# Altium footprint library Con_PcbLib.PcbLib: 98 footprints (part 4 of 7)
Each footprint in its own frame and in the unit in brackets; x right, y up, seen from the top. Pads: shape width x height; smd on the part's side, far side on the other; paste and mask are expansions set on the pad; w line width, h text height; cw(c..) or ccw(c..) is an arc to the next point about the centre after c.
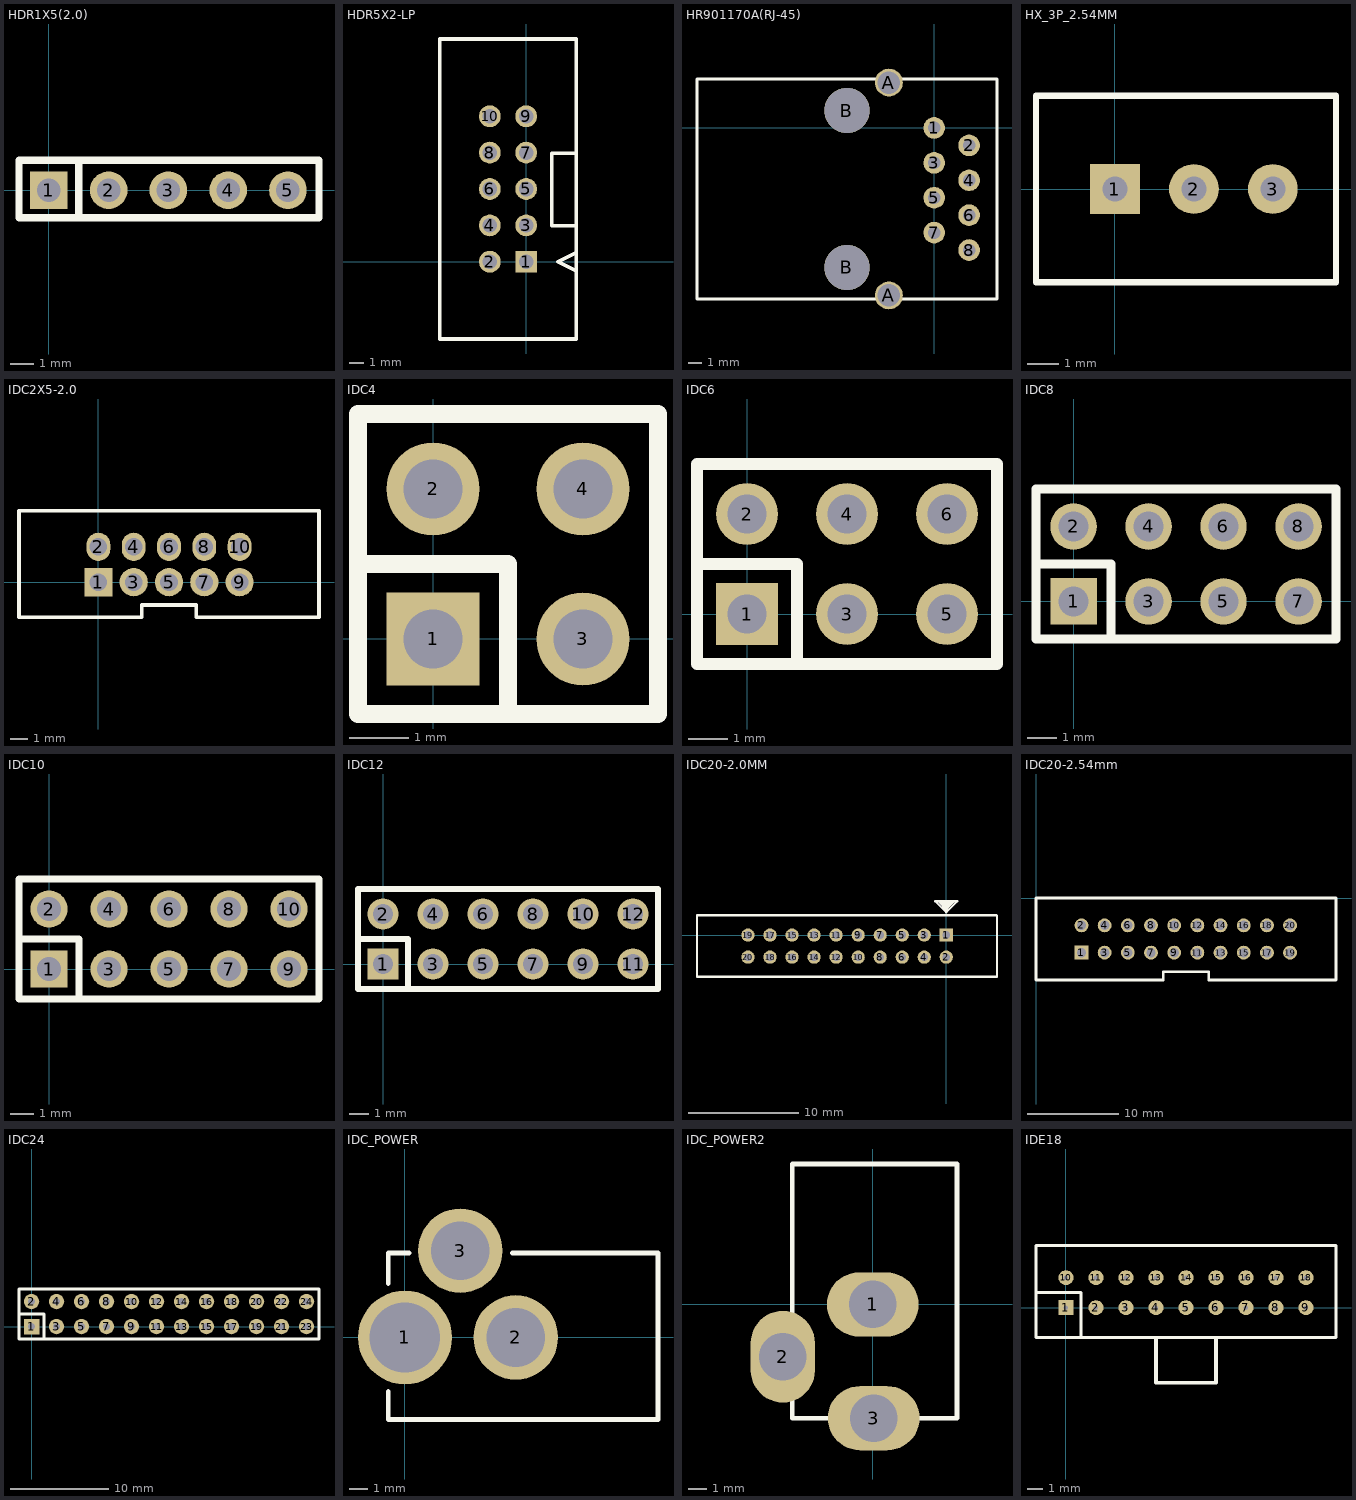
[diagram p3: the footprints below, top view; thin cyan lines are the x and y axes]

## HDR1X5(2.0) [mm]
pads (5):
  rect 1.6x1.6 hole 1: 1(0,0)
  round 1.6 hole 1: 2(2.54,0) 3(5.08,0) 4(7.62,0) 5(10.16,0)
Top Overlay:
  lines w0.305: 1.27,-1.168 1.27,1.27 ; -1.27,-1.168 11.481,-1.168 11.481,1.27 -1.27,1.27 -1.27,-1.168

## HDR5X2-LP [mil]
pads (10):
  rect 60x60 hole 40: 1(0,0)
  round 60 hole 40: 2(-100,0) 3(0,100) 4(-100,100) 5(0,200) 6(-100,200) 7(0,300) 8(-100,300) 9(0,400) 10(-100,400)
Top Overlay:
  lines w10: 137.5,-25 87.5,0 137.5,25 ; 137.5,99.37 70.04,99.37 70.04,298.7 137.5,298.7 ; -237.5,-212.5 -237.5,612.5 137.5,612.5 137.5,-212.5 -237.5,-212.5

## HR901170A(RJ-45) [mil]
pads (12):
  round 62 hole 36: 1(0,0) 2(100,-50) 3(0,-100) 4(100,-150) 5(0,-200) 6(100,-250) 7(0,-300) 8(100,-350)
  round 80 hole 65: A(-130,-480) A(-130,130)
  round 130 hole 130: B(-250,-400) B(-250,50)
Top Overlay:
  lines w8: -680,-490 -680,140 180,140 180,-490 -680,-490

## HX_3P_2.54MM [mm]
pads (3):
  rect 1.6x1.6 hole 0.8: 1(0,0)
  round 1.6 hole 0.8: 2(2.54,0) 3(5.08,0)
Top Overlay:
  lines w0.2: 7.089,-3 -2.54,-3 -2.54,3 7.089,3 ; 7.112,-3 7.112,3

## IDC2X5-2.0 [mm]
pads (10):
  rect 1.6x1.6 hole 1: 1(0,0)
  oval 1.35x1.6 hole 1: 2(0,2) 4(2,2) 6(4,2) 8(6,2) 10(8,2)
  round 1.6 hole 1: 3(2,0) 5(4,0) 7(6,0) 9(8,0)
Top Overlay:
  lines w0.2: -4.5,-1.98 -4.5,4.039 12.5,4.039 12.5,-1.982 ; -4.46,-1.98 2.464,-1.981 2.464,-1.295 5.537,-1.295 5.537,-1.98 12.497,-1.981

## IDC4 [mil]
pads (4):
  rect 62x62 hole 39.37: 1(0,0)
  round 62 hole 39.37: 2(0,100) 3(100,0) 4(100,100)
Top Overlay:
  lines w12: -50,50 50,50 50,-50 ; -50,-50 150,-50 150,150 -50,150 -50,-50

## IDC6 [mil]
pads (6):
  rect 62x62 hole 39.37: 1(0,0)
  round 62 hole 39.37: 2(0,100) 3(100,0) 4(100,100) 5(200,0) 6(200,100)
Top Overlay:
  lines w12: -50,50 50,50 50,-50 ; -50,-50 250,-50 250,150 -50,150 -50,-50

## IDC8 [mil]
pads (8):
  rect 62x62 hole 39.37: 1(0,0)
  round 62 hole 39.37: 2(0,100) 3(100,0) 4(100,100) 5(200,0) 6(200,100) 7(300,0) 8(300,100)
Top Overlay:
  lines w12: -50,50 50,50 50,-50 ; -50,-50 -50,150 350,150 350,-50 -50,-50

## IDC10 [mil]
pads (10):
  rect 62x62 hole 39.37: 1(0,0)
  round 62 hole 39.37: 2(0,100) 3(100,0) 4(100,100) 5(200,0) 6(200,100) 7(300,0) 8(300,100) 9(400,0) 10(400,100)
Top Overlay:
  lines w12: -50,50 50,50 50,-50 ; -50,-50 -50,150 450,150 450,-50 -50,-50

## IDC12 [mil]
pads (12):
  rect 62x62 hole 39.37: 1(0,0)
  round 62 hole 39.37: 2(0,100) 3(100,0) 4(100,100) 5(200,0) 6(200,100) 7(300,0) 8(300,100) 9(400,0) 10(400,100) 11(500,0) 12(500,100)
Top Overlay:
  lines w12: -50,50 50,50 50,-50 ; -50,-50 -50,150 550,150 550,-50 -50,-50

## IDC20-2.0MM [mm]
pads (20):
  rect 1.2x1.2 hole 0.7: 1(0,0)
  round 1.2 hole 0.7: 2(0,-2) 3(-2,0) 4(-2,-2) 5(-4,0) 6(-4,-2) 7(-6,0) 8(-6,-2) 9(-8,0) 10(-8,-2) 11(-10,0) 12(-10,-2) 13(-12,0) 14(-12,-2) 15(-14,0) 16(-14,-2) 17(-16,0) 18(-16,-2) 19(-18,0) 20(-18,-2)
Top Overlay:
  lines w0.2: -22.626,-3.322 -22.626,1.678 ; -21.051,-3.779 2.949,-3.779 ; -21.002,1.803 2.998,1.803 ; 4.602,-3.781 4.602,1.219 ; -1,3.073 1,3.073 0,2.073 -1,3.073
  lines w0.203: -22.626,-3.322 -22.626,-3.775 -22.621,-3.779 -21.051,-3.779 ; -22.626,1.678 -22.626,1.827 ; -22.602,1.803 -22.145,1.803 ; -22.449,1.803 -21.002,1.803 ; -0.732,3.073 0.055,2.286 0.055,2.438 0.08,2.438 0.715,3.073 0.69,3.073 0.233,2.616 0.207,2.59 -0.097,2.59 -0.428,2.921 -0.428,3.073 0.055,2.59 0.08,2.59 0.284,2.794 0.284,3.073 0.182,3.073 -0.021,2.87 -0.021,2.921 -0.174,3.073 -0.174,3.022 0.055,2.794 0.157,2.794 0.436,3.073 0.131,3.073 ; 2.949,-3.779 2.951,-3.781 4.602,-3.781 ; 2.998,1.803 4.551,1.803 4.602,1.752 4.602,1.219

## IDC20-2.54mm [mil]
pads (20):
  rect 60x60 hole 40: 1(196.85,-236.22)
  round 60 hole 40: 2(196.85,-118.11) 3(297.24,-236.22) 4(297.24,-118.11) 5(397.64,-236.22) 6(397.64,-118.11) 7(498.03,-236.22) 8(498.03,-118.11) 9(598.43,-236.22) 10(598.43,-118.11) 11(698.82,-236.22) 12(698.82,-118.11) 13(799.21,-236.22) 14(799.21,-118.11) 15(899.61,-236.22) 16(899.61,-118.11) 17(1000,-236.22) 18(1000,-118.11) 19(1100.39,-236.22) 20(1100.39,-118.11)
Top Overlay:
  lines w12: 0,-354.33 551.18,-354.33 551.18,-318.82 748.03,-318.82 748.03,-354.33 1299.21,-354.33 1299.21,0 0,0 0,-354.33

## IDC24 [mil]
pads (24):
  rect 62x62 hole 28: 1(0,0)
  round 62 hole 28: 2(0,100) 3(100,0) 4(100,100) 5(200,0) 6(200,100) 7(300,0) 8(300,100) 9(400,0) 10(400,100) 11(500,0) 12(500,100) 13(600,0) 14(600,100) 15(700,0) 16(700,100) 17(800,0) 18(800,100) 19(900,0) 20(900,100) 21(1000,0) 22(1000,100) 23(1100,0) 24(1100,100)
Top Overlay:
  lines w12: -50,50 50,50 50,-50 ; -50,-50 1150,-50 1150,150 -50,150 -50,-50

## IDC_POWER [mil]
pads (3):
  round 200 hole 150: 1(0,0)
  round 180 hole 125: 2(236.22,0) 3(118.11,185.04)
Top Overlay:
  lines w10: -35.63,-115 -35.63,-175 539.37,-175 539.37,180 229.37,180 ; -35.63,115 -35.63,180 9.37,180

## IDC_POWER2 [mil]
pads (3):
  oval 197x138 hole 102: 1(0,0) 3(2,-244)
  oval 138x197 hole 102: 2(-193,-112)
Top Overlay:
  lines w10: -173,-244 -173,301.66 181,301.66 181,-244 -171,-244

## IDE18 [mm]
pads (18):
  rect 1x1 hole 0.3: 1(0,0)
  round 1 hole 0.3: 2(2,0) 3(4,0) 4(6,0) 5(8,0) 6(10,0) 7(12,0) 8(14,0) 9(16,0) 10(0,2) 11(2,2) 12(4,2) 13(6,2) 14(8,2) 15(10,2) 16(12,2) 17(14,2) 18(16,2)
Top Overlay:
  lines w0.2: -2,1 1,1 1,-2 ; -2,-2 18,-2 18,4.16 -2,4.16 -2,-2
  lines w0.254: 6,-2 6,-5 10,-5 10,-2